# Altium integrated library Analog Devices Clock Generation and Distribution.IntLib: 120 symbols (part 17 of 18)
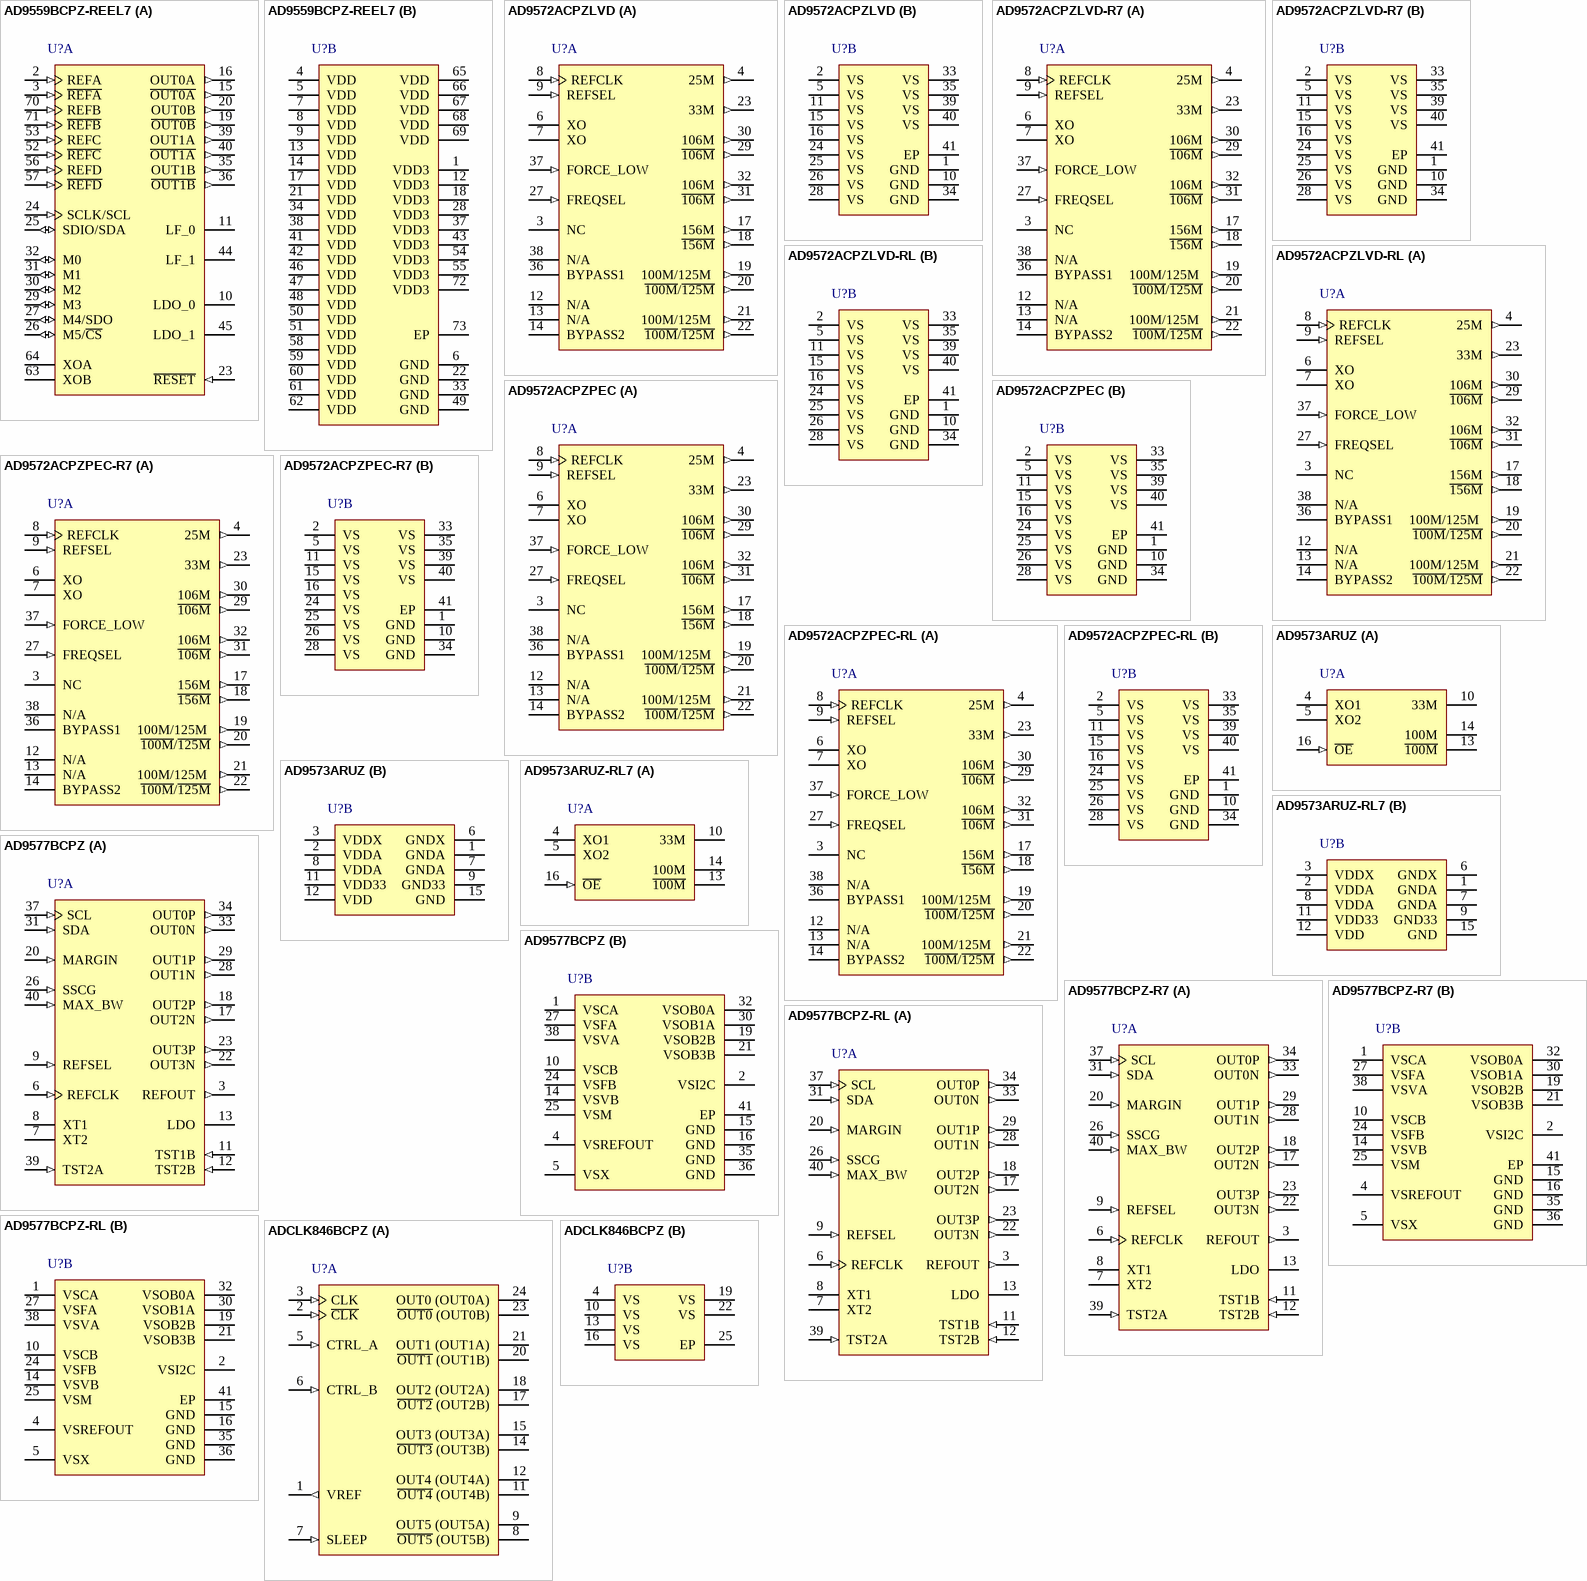
[diagram p28: symbols AD9559BCPZ-REEL7 to ADCLK846BCPZ]

## AD9577BCPZ
designator U?
Clock Generator with Dual PLLs, Spread Spectrum, and Margining, 3.3 V Supply, Industrial, 40-pin QFN (CP-40-7), Tray; Manufacturer: Analog Devices; PartNumber: AD9577BCPZ; # of Inputs: 1; # of Outputs: 8; Supply Voltage (V): 3.3; I/O Interface: Serial; Max f-out: 637.5 MHz; On-Chip VCO or DCO: Yes; Output Logic: LVCMOS, LVDS, LVPECL; DatasheetVersion: Rev. 0; PackageVersion: 012909-B, 02/2009; PackageReference: CP-40-7; PackageDescription: 40-Pin Lead Frame Chip Scale Package, Body 6 x 6 mm, Pitch 0.5 mm; Supplier 1: Digi-Key; Supplier Part Number 1: AD9577BCPZ-ND; Supplier 2: Mouser; Supplier Part Number 2: 584-AD9577BCPZ; Packing: Tray; Mounting Technology: Surface Mount; Code_JEDEC: MO-220-WJJD; ComponentLink1Description: Manufacturer URL; ComponentLink1URL: http://www.analog.com/en/index.html; ComponentLink2Description: Datasheet; ComponentLink2URL: http://www.analog.com/static/imported-files/data_sheets/AD9577.pdf; ComponentLink3Description: Package Specification; ComponentLink3URL: http:/www.analog.com/static/imported-files/packages/PKG_PDF/LFCSP(CP)/CP-40/CP_40_7.pdf; ComponentLink4Description: Product URL; ComponentLink4URL: http://www.analog.com/en/clock-and-timing/clock-generation-and-distribution/ad9577/products/product.html
footprint ADI-CP-40-7_N (QFN, 40-Leads, Body 6x6mm, Pitch 0.5mm, Thermal Pad 4.6x4.6mm, IPC Medium Density)
footprint ADI-CP-40-7_L (QFN, 40-Leads, Body 6x6mm, Pitch 0.5mm, Thermal Pad 4.6x4.6mm, IPC High Density)
footprint ADI-CP-40-7_M (QFN, 40-Leads, Body 6x6mm, Pitch 0.5mm, Thermal Pad 4.6x4.6mm, IPC Low Density)
part A pins: 3 REFOUT (out) "CMOS Reference Output.", 6 REFCLK (in) "Reference Clock Input. Tie low when not in use.", 7 XT2 "External 19.44 MHz to 27 MHz Crystal. Leave unconnected when not in use.", 8 XT1 "External 19.44 MHz to 27 MHz Crystal. Leave unconnected when not in use.", 9 REFSEL (in) "Logic Input. Use this pin to select the reference source. Internal 30 k ohm pull-up resistor.", 11 TST1B (in) "Test Pin. Connect this pin to Pin 13 (LDO).", 12 TST2B (in) "Test Pin. Connect this pin to Pin 13 (LDO).", 13 LDO "This pin is for bypassing the PLL2 LDO to ground with a 220 nF capacitor.", 17 OUT2N (out) "LVPECL/LVDS/CMOS Clock Output.", 18 OUT2P (out) "LVPECL/LVDS/CMOS Clock Output.", 20 MARGIN (in) "Logic 1 sets the margining frequency on the clock output pins. Internal 30 k ohm pull-down resistor.", 22 OUT3N (out) "LVPECL/LVDS/CMOS Clock Output.", 23 OUT3P (out) "LVPECL/LVDS/CMOS Clock Output.", 26 SSCG (in) "Logic 1 enables spread spectrum operation of PLL2. Internal 30 k ohm pull-down resistor.", 28 OUT1N (out) "LVPECL/LVDS/CMOS Clock Output.", 29 OUT1P (out) "LVPECL/LVDS/CMOS Clock Output.", 31 SDA (in) "Serial Data Line for I2C.", 33 OUT0N (out) "LVPECL/LVDS/CMOS Clock Output.", 34 OUT0P (out) "LVPECL/LVDS/CMOS Clock Output.", 37 SCL (in) "Serial Clock for I2C.", 39 TST2A (in) "Test Pin. Connect this pin to the printed circuit board (PCB) ground plane.", 40 MAX_BW (in) "Logic 1 widens the loop bandwidth of the fractional-N PLL during spread spectrum. Internal 30 k ohm pull-down resistor."
part B pins: 1 VSCA (power) "PLL1 Power Supply.", 2 VSI2C (power) "I2C Digital Power Supply.", 4 VSREFOUT (power) "Reference Output Buffer Power Supply.", 5 VSX (power) "Crystal Oscillator and Input Reference Power Supply.", 10 VSCB (power) "PLL2 Analog Power Supply.", 14 VSVB (power) "PLL2 VCO Power Supply.", 15 GND (power) "Ground.", 16 GND (power) "Ground.", 19 VSOB2B (power) "Output Port OUT2 Power Supply.", 21 VSOB3B (power) "Output Port OUT3 Power Supply.", 24 VSFB (power) "PLL2 Analog Power Supply.", 25 VSM (power) "PLL2 Digital Power Supply.", 27 VSFA (power) "PLL1 Analog Power Supply.", 30 VSOB1A (power) "Output Port OUT1 Power Supply.", 32 VSOB0A (power) "Output Port OUT0 Power Supply.", 35 GND (power) "Ground.", 36 GND (power) "Ground.", 38 VSVA (power) "PLL1 VCO Power Supply.", 41 EP (power) "The exposed paddle on this package is an electrical connection as well as a thermal enhancement. For the device to function properly, the paddle must be attached to ground (GND). It is recommended that a minimum of nine vias (See Datasheet)"

## AD9577BCPZ-R7
designator U?
Clock Generator with Dual PLLs, Spread Spectrum, and Margining, 3.3 V Supply, Industrial, 40-pin QFN (CP-40-7), Reel; Manufacturer: Analog Devices; PartNumber: AD9577BCPZ-R7; # of Inputs: 1; # of Outputs: 8; Supply Voltage (V): 3.3; I/O Interface: Serial; Max f-out: 637.5 MHz; On-Chip VCO or DCO: Yes; Output Logic: LVCMOS, LVDS, LVPECL; DatasheetVersion: Rev. 0; PackageVersion: 012909-B, 02/2009; PackageReference: CP-40-7; PackageDescription: 40-Pin Lead Frame Chip Scale Package, Body 6 x 6 mm, Pitch 0.5 mm; Supplier 1: Digi-Key; Supplier Part Number 1: AD9577BCPZ-R7TR-ND; Supplier 2: Digi-Key; Supplier Part Number 2: AD9577BCPZ-R7CT-ND; Supplier 3: Digi-Key; Supplier Part Number 3: AD9577BCPZ-R7DKR-ND; Supplier 4: Farnell; Supplier Part Number 4: 2065950; Supplier 5: Newark; Supplier Part Number 5: 72T0902; Supplier 6: Newark; Supplier Part Number 6: 67T0318; Supplier 7: Mouser; Supplier Part Number 7: 584-AD9577BCPZ-R7; Packing: Reel; Mounting Technology: Surface Mount; Code_JEDEC: MO-220-WJJD; ComponentLink1Description: Manufacturer URL; ComponentLink1URL: http://www.analog.com/en/index.html; ComponentLink2Description: Datasheet; ComponentLink2URL: http://www.analog.com/static/imported-files/data_sheets/AD9577.pdf; ComponentLink3Description: Package Specification; ComponentLink3URL: http:/www.analog.com/static/imported-files/packages/PKG_PDF/LFCSP(CP)/CP-40/CP_40_7.pdf; ComponentLink4Description: Product URL; ComponentLink4URL: http://www.analog.com/en/clock-and-timing/clock-generation-and-distribution/ad9577/products/product.html
footprint ADI-CP-40-7_N (QFN, 40-Leads, Body 6x6mm, Pitch 0.5mm, Thermal Pad 4.6x4.6mm, IPC Medium Density)
footprint ADI-CP-40-7_L (QFN, 40-Leads, Body 6x6mm, Pitch 0.5mm, Thermal Pad 4.6x4.6mm, IPC High Density)
footprint ADI-CP-40-7_M (QFN, 40-Leads, Body 6x6mm, Pitch 0.5mm, Thermal Pad 4.6x4.6mm, IPC Low Density)
part A pins: 3 REFOUT (out) "CMOS Reference Output.", 6 REFCLK (in) "Reference Clock Input. Tie low when not in use.", 7 XT2 "External 19.44 MHz to 27 MHz Crystal. Leave unconnected when not in use.", 8 XT1 "External 19.44 MHz to 27 MHz Crystal. Leave unconnected when not in use.", 9 REFSEL (in) "Logic Input. Use this pin to select the reference source. Internal 30 k ohm pull-up resistor.", 11 TST1B (in) "Test Pin. Connect this pin to Pin 13 (LDO).", 12 TST2B (in) "Test Pin. Connect this pin to Pin 13 (LDO).", 13 LDO "This pin is for bypassing the PLL2 LDO to ground with a 220 nF capacitor.", 17 OUT2N (out) "LVPECL/LVDS/CMOS Clock Output.", 18 OUT2P (out) "LVPECL/LVDS/CMOS Clock Output.", 20 MARGIN (in) "Logic 1 sets the margining frequency on the clock output pins. Internal 30 k ohm pull-down resistor.", 22 OUT3N (out) "LVPECL/LVDS/CMOS Clock Output.", 23 OUT3P (out) "LVPECL/LVDS/CMOS Clock Output.", 26 SSCG (in) "Logic 1 enables spread spectrum operation of PLL2. Internal 30 k ohm pull-down resistor.", 28 OUT1N (out) "LVPECL/LVDS/CMOS Clock Output.", 29 OUT1P (out) "LVPECL/LVDS/CMOS Clock Output.", 31 SDA (in) "Serial Data Line for I2C.", 33 OUT0N (out) "LVPECL/LVDS/CMOS Clock Output.", 34 OUT0P (out) "LVPECL/LVDS/CMOS Clock Output.", 37 SCL (in) "Serial Clock for I2C.", 39 TST2A (in) "Test Pin. Connect this pin to the printed circuit board (PCB) ground plane.", 40 MAX_BW (in) "Logic 1 widens the loop bandwidth of the fractional-N PLL during spread spectrum. Internal 30 k ohm pull-down resistor."
part B pins: 1 VSCA (power) "PLL1 Power Supply.", 2 VSI2C (power) "I2C Digital Power Supply.", 4 VSREFOUT (power) "Reference Output Buffer Power Supply.", 5 VSX (power) "Crystal Oscillator and Input Reference Power Supply.", 10 VSCB (power) "PLL2 Analog Power Supply.", 14 VSVB (power) "PLL2 VCO Power Supply.", 15 GND (power) "Ground.", 16 GND (power) "Ground.", 19 VSOB2B (power) "Output Port OUT2 Power Supply.", 21 VSOB3B (power) "Output Port OUT3 Power Supply.", 24 VSFB (power) "PLL2 Analog Power Supply.", 25 VSM (power) "PLL2 Digital Power Supply.", 27 VSFA (power) "PLL1 Analog Power Supply.", 30 VSOB1A (power) "Output Port OUT1 Power Supply.", 32 VSOB0A (power) "Output Port OUT0 Power Supply.", 35 GND (power) "Ground.", 36 GND (power) "Ground.", 38 VSVA (power) "PLL1 VCO Power Supply.", 41 EP (power) "The exposed paddle on this package is an electrical connection as well as a thermal enhancement. For the device to function properly, the paddle must be attached to ground (GND). It is recommended that a minimum of nine vias (See Datasheet)"

## AD9577BCPZ-RL
designator U?
Clock Generator with Dual PLLs, Spread Spectrum, and Margining, 3.3 V Supply, Industrial, 40-pin QFN (CP-40-7), Reel; Manufacturer: Analog Devices; PartNumber: AD9577BCPZ-RL; # of Inputs: 1; # of Outputs: 8; Supply Voltage (V): 3.3; I/O Interface: Serial; Max f-out: 637.5 MHz; On-Chip VCO or DCO: Yes; Output Logic: LVCMOS, LVDS, LVPECL; DatasheetVersion: Rev. 0; PackageVersion: 012909-B, 02/2009; PackageReference: CP-40-7; PackageDescription: 40-Pin Lead Frame Chip Scale Package, Body 6 x 6 mm, Pitch 0.5 mm; Supplier 1: Digi-Key; Supplier Part Number 1: AD9577BCPZ-RL-ND; Supplier 2: Mouser; Supplier Part Number 2: 584-AD9577BCPZ-R; Packing: Reel; Mounting Technology: Surface Mount; Code_JEDEC: MO-220-WJJD; ComponentLink1Description: Manufacturer URL; ComponentLink1URL: http://www.analog.com/en/index.html; ComponentLink2Description: Datasheet; ComponentLink2URL: http://www.analog.com/static/imported-files/data_sheets/AD9577.pdf; ComponentLink3Description: Package Specification; ComponentLink3URL: http:/www.analog.com/static/imported-files/packages/PKG_PDF/LFCSP(CP)/CP-40/CP_40_7.pdf; ComponentLink4Description: Product URL; ComponentLink4URL: http://www.analog.com/en/clock-and-timing/clock-generation-and-distribution/ad9577/products/product.html
footprint ADI-CP-40-7_N (QFN, 40-Leads, Body 6x6mm, Pitch 0.5mm, Thermal Pad 4.6x4.6mm, IPC Medium Density)
footprint ADI-CP-40-7_L (QFN, 40-Leads, Body 6x6mm, Pitch 0.5mm, Thermal Pad 4.6x4.6mm, IPC High Density)
footprint ADI-CP-40-7_M (QFN, 40-Leads, Body 6x6mm, Pitch 0.5mm, Thermal Pad 4.6x4.6mm, IPC Low Density)
part A pins: 3 REFOUT (out) "CMOS Reference Output.", 6 REFCLK (in) "Reference Clock Input. Tie low when not in use.", 7 XT2 "External 19.44 MHz to 27 MHz Crystal. Leave unconnected when not in use.", 8 XT1 "External 19.44 MHz to 27 MHz Crystal. Leave unconnected when not in use.", 9 REFSEL (in) "Logic Input. Use this pin to select the reference source. Internal 30 k ohm pull-up resistor.", 11 TST1B (in) "Test Pin. Connect this pin to Pin 13 (LDO).", 12 TST2B (in) "Test Pin. Connect this pin to Pin 13 (LDO).", 13 LDO "This pin is for bypassing the PLL2 LDO to ground with a 220 nF capacitor.", 17 OUT2N (out) "LVPECL/LVDS/CMOS Clock Output.", 18 OUT2P (out) "LVPECL/LVDS/CMOS Clock Output.", 20 MARGIN (in) "Logic 1 sets the margining frequency on the clock output pins. Internal 30 k ohm pull-down resistor.", 22 OUT3N (out) "LVPECL/LVDS/CMOS Clock Output.", 23 OUT3P (out) "LVPECL/LVDS/CMOS Clock Output.", 26 SSCG (in) "Logic 1 enables spread spectrum operation of PLL2. Internal 30 k ohm pull-down resistor.", 28 OUT1N (out) "LVPECL/LVDS/CMOS Clock Output.", 29 OUT1P (out) "LVPECL/LVDS/CMOS Clock Output.", 31 SDA (in) "Serial Data Line for I2C.", 33 OUT0N (out) "LVPECL/LVDS/CMOS Clock Output.", 34 OUT0P (out) "LVPECL/LVDS/CMOS Clock Output.", 37 SCL (in) "Serial Clock for I2C.", 39 TST2A (in) "Test Pin. Connect this pin to the printed circuit board (PCB) ground plane.", 40 MAX_BW (in) "Logic 1 widens the loop bandwidth of the fractional-N PLL during spread spectrum. Internal 30 k ohm pull-down resistor."
part B pins: 1 VSCA (power) "PLL1 Power Supply.", 2 VSI2C (power) "I2C Digital Power Supply.", 4 VSREFOUT (power) "Reference Output Buffer Power Supply.", 5 VSX (power) "Crystal Oscillator and Input Reference Power Supply.", 10 VSCB (power) "PLL2 Analog Power Supply.", 14 VSVB (power) "PLL2 VCO Power Supply.", 15 GND (power) "Ground.", 16 GND (power) "Ground.", 19 VSOB2B (power) "Output Port OUT2 Power Supply.", 21 VSOB3B (power) "Output Port OUT3 Power Supply.", 24 VSFB (power) "PLL2 Analog Power Supply.", 25 VSM (power) "PLL2 Digital Power Supply.", 27 VSFA (power) "PLL1 Analog Power Supply.", 30 VSOB1A (power) "Output Port OUT1 Power Supply.", 32 VSOB0A (power) "Output Port OUT0 Power Supply.", 35 GND (power) "Ground.", 36 GND (power) "Ground.", 38 VSVA (power) "PLL1 VCO Power Supply.", 41 EP (power) "The exposed paddle on this package is an electrical connection as well as a thermal enhancement. For the device to function properly, the paddle must be attached to ground (GND). It is recommended that a minimum of nine vias (See Datasheet)"

## ADCLK846BCPZ
designator U?
6 LVDS / 12 CMOS Outputs Low Power Clock Fanout Buffer, 1.8 V Supply, Industrial, 24-pin QFN (CP-24-2), Tray; Manufacturer: Analog Devices; PartNumber: ADCLK846BCPZ; # of Inputs: 1; # of Outputs: 12; Supply Voltage (V): 1.8; I/O Interface: Pin Select; Max f-out: 1.2 GHz; On-Chip VCO or DCO: No; Output Logic: CMOS, LVDS; DatasheetVersion: Rev. B; PackageVersion: 01/2005; PackageReference: CP-24-2; PackageDescription: 24-Pin Lead Frame Chip Scale Package, Body 4 x 4 mm, Pitch 0.5 mm; Supplier 1: Digi-Key; Supplier Part Number 1: ADCLK846BCPZ-ND; Supplier 2: Farnell; Supplier Part Number 2: 2376794; Supplier 3: Newark; Supplier Part Number 3: 24R8956; Supplier 4: Mouser; Supplier Part Number 4: 584-ADCLK846BCPZ; Packing: Tray; Mounting Technology: Surface Mount; Code_JEDEC: MO-220-VGGD-2; ComponentLink1Description: Manufacturer URL; ComponentLink1URL: http://www.analog.com/en/index.html; ComponentLink2Description: Datasheet; ComponentLink2URL: http://www.analog.com/static/imported-files/data_sheets/ADCLK846.pdf; ComponentLink3Description: Package Specification; ComponentLink3URL: http:/www.analog.com/static/imported-files/packages/588305704543880784658541CP_24_2.pdf; ComponentLink4Description: Product URL; ComponentLink4URL: http://www.analog.com/en/clock-and-timing/clock-generation-and-distribution/adclk846/products/product.html; ComponentLink5Description: Reference Circuit; ComponentLink5URL: http://www.analog.com/en/clock-and-timing/clock-generation-and-distribution/adclk846/products/product.html#product-recommendations
footprint ADI-CP-24-2_N (QFN, 24-Leads, Body 4x4mm, Pitch 0.5mm, Thermal Pad 2.3x2.3mm, IPC Medium Density)
footprint ADI-CP-24-2_L (QFN, 24-Leads, Body 4x4mm, Pitch 0.5mm, Thermal Pad 2.3x2.3mm, IPC High Density)
footprint ADI-CP-24-2_M (QFN, 24-Leads, Body 4x4mm, Pitch 0.5mm, Thermal Pad 2.3x2.3mm, IPC Low Density)
part A pins: 1 VREF (out) "Reference Voltage.", 2 ~{CLK} (in) "Clock Input (Negative).", 3 CLK (in) "Clock Input (Positive).", 5 CTRL_A (in) "CMOS Input Control for Output 1 to Output 0. (0: LVDS, 1: CMOS.)", 6 CTRL_B (in) "CMOS Input Control for Output 5 to Output 2. (0: LVDS, 1: CMOS.)", 7 SLEEP (in) "CMOS Input for Sleep Mode. (0: normal operation, 1: sleep.)", 8 ~{OUT5} (OUT5B) (hiz) "Complementary Side of Differential LVDS Output 5, or CMOS Output 5 on Channel B.", 9 OUT5 (OUT5A) (hiz) "True Side of Differential LVDS Output 5, or CMOS Output 5 on Channel A.", 11 ~{OUT4} (OUT4B) (hiz) "Complementary Side of Differential LVDS Output 4, or CMOS Output 4 on Channel B.", 12 OUT4 (OUT4A) (hiz) "True Side of Differential LVDS Output 4, or CMOS Output 4 on Channel A.", 14 ~{OUT3} (OUT3B) (hiz) "Complementary Side of Differential LVDS Output 3, or CMOS Output 3 on Channel B.", 15 OUT3 (OUT3A) (hiz) "True Side of Differential LVDS Output 3, or CMOS Output 3 on Channel A.", 17 ~{OUT2} (OUT2B) (hiz) "Complementary Side of Differential LVDS Output 2, or CMOS Output 2 on Channel B.", 18 OUT2 (OUT2A) (hiz) "True Side of Differential LVDS Output 2, or CMOS Output 2 on Channel A.", 20 ~{OUT1} (OUT1B) (hiz) "Complementary Side of Differential LVDS Output 1, or CMOS Output 1 on Channel B.", 21 OUT1 (OUT1A) (hiz) "True Side of Differential LVDS Output 1, or CMOS Output 1 on Channel A.", 23 ~{OUT0} (OUT0B) (hiz) "Complementary Side of Differential LVDS Output 0, or CMOS Output 0 on Channel B.", 24 OUT0 (OUT0A) (hiz) "True Side of Differential LVDS Output 0, or CMOS Output 0 on Channel A."
part B pins: 4 VS (power) "Supply Voltage.", 10 VS (power) "Supply Voltage.", 13 VS (power) "Supply Voltage.", 16 VS (power) "Supply Voltage.", 19 VS (power) "Supply Voltage.", 22 VS (power) "Supply Voltage.", 25 EP (power) "Exposed Paddle. The exposed paddle must be connected to ground."

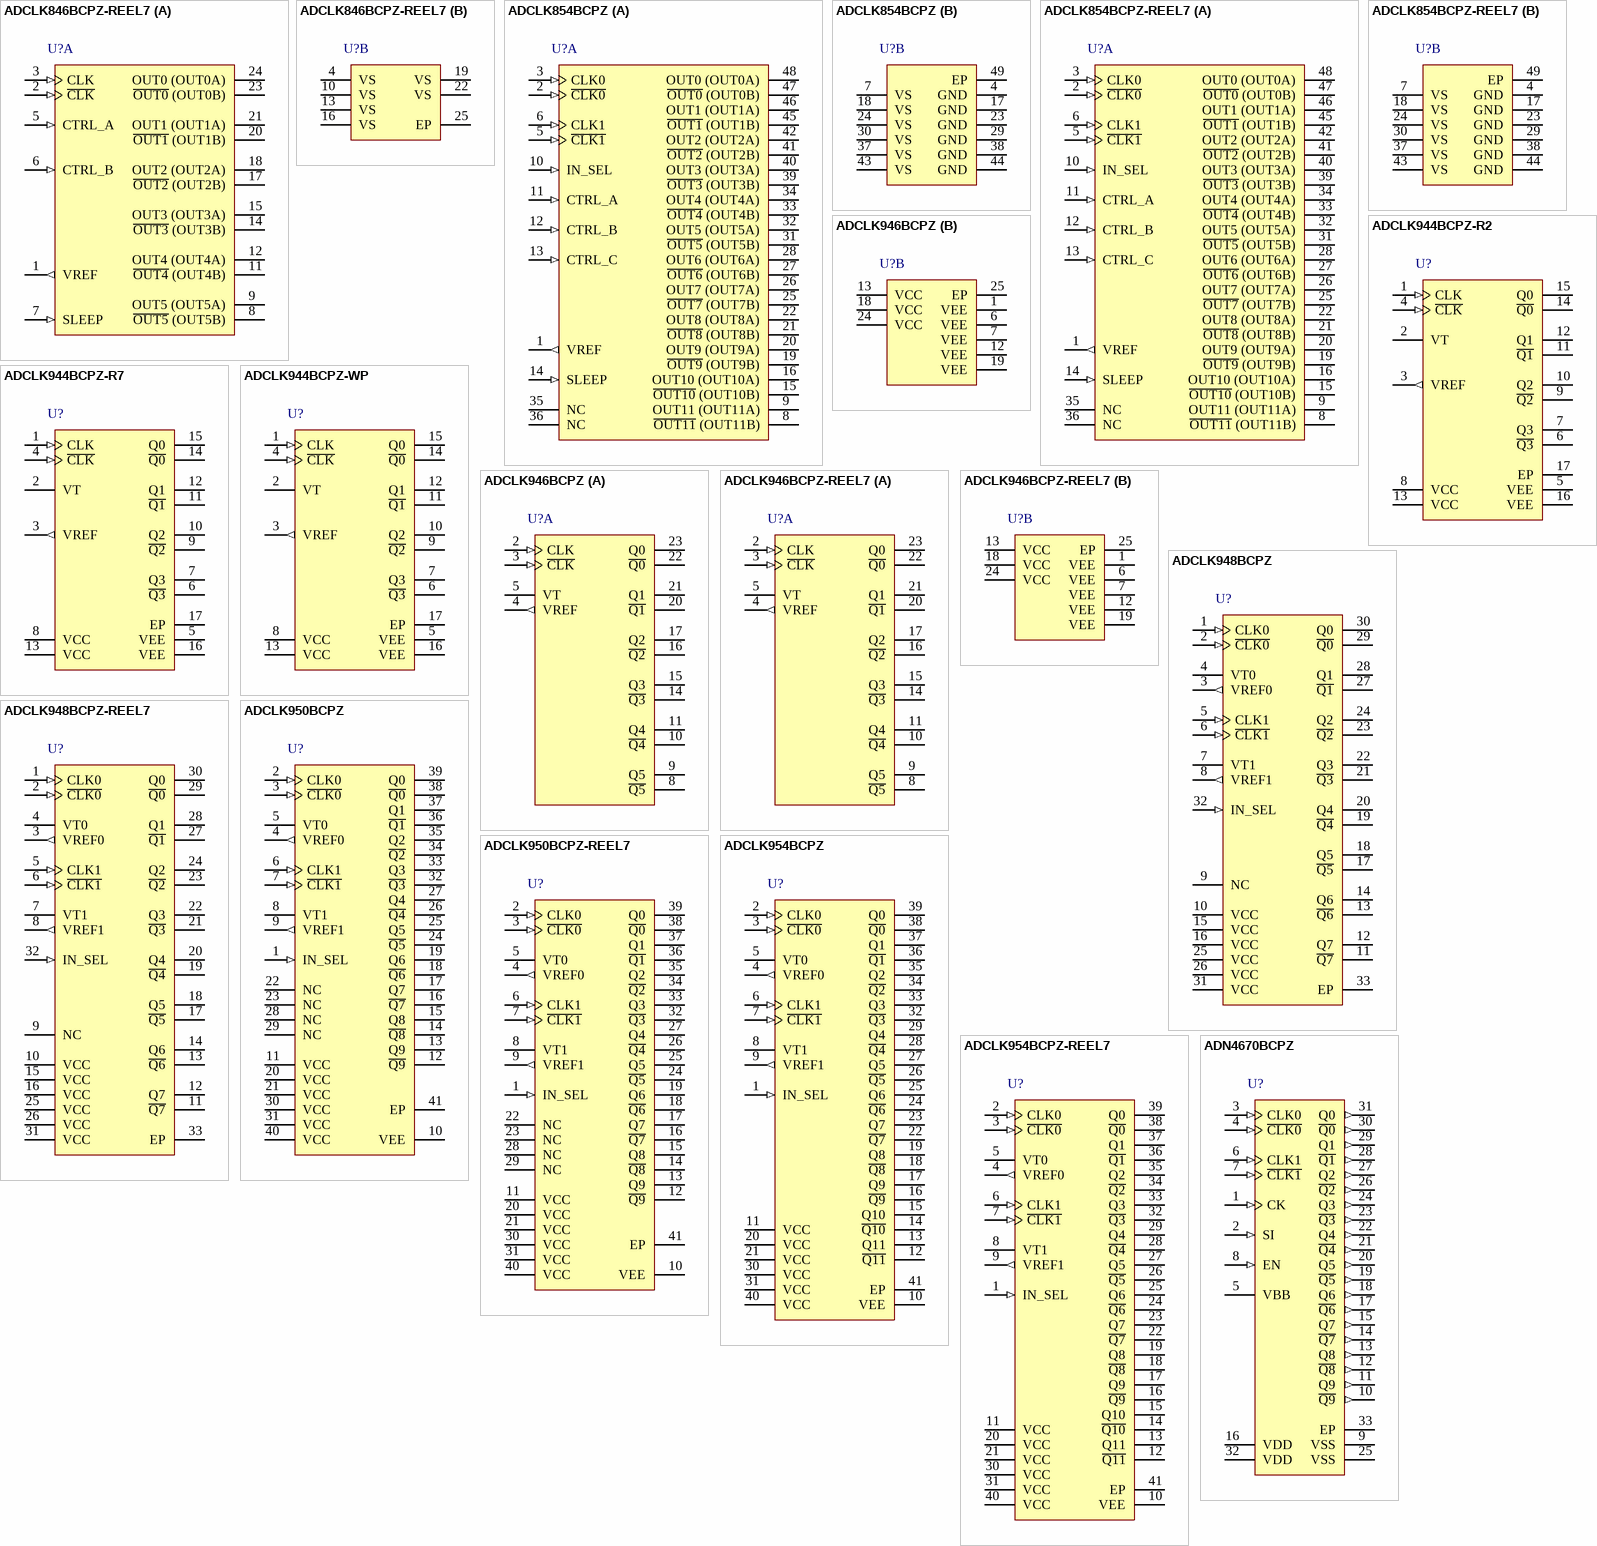
[diagram p11: symbols ADCLK846BCPZ-REEL7 to ADN4670BCPZ]

## ADCLK846BCPZ-REEL7
designator U?
6 LVDS / 12 CMOS Outputs Low Power Clock Fanout Buffer, 1.8 V Supply, Industrial, 24-pin QFN (CP-24-2), Reel; Manufacturer: Analog Devices; PartNumber: ADCLK846BCPZ-REEL7; # of Inputs: 1; # of Outputs: 12; Supply Voltage (V): 1.8; I/O Interface: Pin Select; Max f-out: 1.2 GHz; On-Chip VCO or DCO: No; Output Logic: CMOS, LVDS; DatasheetVersion: Rev. B; PackageVersion: 01/2005; PackageReference: CP-24-2; PackageDescription: 24-Pin Lead Frame Chip Scale Package, Body 4 x 4 mm, Pitch 0.5 mm; Supplier 1: Digi-Key; Supplier Part Number 1: ADCLK846BCPZ-REEL7-ND; Supplier 2: Newark; Supplier Part Number 2: 24R8957; Supplier 3: Mouser; Supplier Part Number 3: 584-ADCLK846BCPZR7; Packing: Reel; Mounting Technology: Surface Mount; Code_JEDEC: MO-220-VGGD-2; ComponentLink1Description: Manufacturer URL; ComponentLink1URL: http://www.analog.com/en/index.html; ComponentLink2Description: Datasheet; ComponentLink2URL: http://www.analog.com/static/imported-files/data_sheets/ADCLK846.pdf; ComponentLink3Description: Package Specification; ComponentLink3URL: http:/www.analog.com/static/imported-files/packages/588305704543880784658541CP_24_2.pdf; ComponentLink4Description: Product URL; ComponentLink4URL: http://www.analog.com/en/clock-and-timing/clock-generation-and-distribution/adclk846/products/product.html; ComponentLink5Description: Reference Circuit; ComponentLink5URL: http://www.analog.com/en/clock-and-timing/clock-generation-and-distribution/adclk846/products/product.html#product-recommendations
footprint ADI-CP-24-2_N (QFN, 24-Leads, Body 4x4mm, Pitch 0.5mm, Thermal Pad 2.3x2.3mm, IPC Medium Density)
footprint ADI-CP-24-2_L (QFN, 24-Leads, Body 4x4mm, Pitch 0.5mm, Thermal Pad 2.3x2.3mm, IPC High Density)
footprint ADI-CP-24-2_M (QFN, 24-Leads, Body 4x4mm, Pitch 0.5mm, Thermal Pad 2.3x2.3mm, IPC Low Density)
part A pins: 1 VREF (out) "Reference Voltage.", 2 ~{CLK} (in) "Clock Input (Negative).", 3 CLK (in) "Clock Input (Positive).", 5 CTRL_A (in) "CMOS Input Control for Output 1 to Output 0. (0: LVDS, 1: CMOS.)", 6 CTRL_B (in) "CMOS Input Control for Output 5 to Output 2. (0: LVDS, 1: CMOS.)", 7 SLEEP (in) "CMOS Input for Sleep Mode. (0: normal operation, 1: sleep.)", 8 ~{OUT5} (OUT5B) (hiz) "Complementary Side of Differential LVDS Output 5, or CMOS Output 5 on Channel B.", 9 OUT5 (OUT5A) (hiz) "True Side of Differential LVDS Output 5, or CMOS Output 5 on Channel A.", 11 ~{OUT4} (OUT4B) (hiz) "Complementary Side of Differential LVDS Output 4, or CMOS Output 4 on Channel B.", 12 OUT4 (OUT4A) (hiz) "True Side of Differential LVDS Output 4, or CMOS Output 4 on Channel A.", 14 ~{OUT3} (OUT3B) (hiz) "Complementary Side of Differential LVDS Output 3, or CMOS Output 3 on Channel B.", 15 OUT3 (OUT3A) (hiz) "True Side of Differential LVDS Output 3, or CMOS Output 3 on Channel A.", 17 ~{OUT2} (OUT2B) (hiz) "Complementary Side of Differential LVDS Output 2, or CMOS Output 2 on Channel B.", 18 OUT2 (OUT2A) (hiz) "True Side of Differential LVDS Output 2, or CMOS Output 2 on Channel A.", 20 ~{OUT1} (OUT1B) (hiz) "Complementary Side of Differential LVDS Output 1, or CMOS Output 1 on Channel B.", 21 OUT1 (OUT1A) (hiz) "True Side of Differential LVDS Output 1, or CMOS Output 1 on Channel A.", 23 ~{OUT0} (OUT0B) (hiz) "Complementary Side of Differential LVDS Output 0, or CMOS Output 0 on Channel B.", 24 OUT0 (OUT0A) (hiz) "True Side of Differential LVDS Output 0, or CMOS Output 0 on Channel A."
part B pins: 4 VS (power) "Supply Voltage.", 10 VS (power) "Supply Voltage.", 13 VS (power) "Supply Voltage.", 16 VS (power) "Supply Voltage.", 19 VS (power) "Supply Voltage.", 22 VS (power) "Supply Voltage.", 25 EP (power) "Exposed Paddle. The exposed paddle must be connected to ground."

## ADCLK854BCPZ
designator U?
12 LVDS / 24 CMOS Outputs, Low Power Clock Fanout Buffer, 1.8 V Supply, Industrial, 48-pin QFN (CP-48-6), Tray; Manufacturer: Analog Devices; PartNumber: ADCLK854BCPZ; # of Inputs: 2; # of Outputs: 24; Supply Voltage (V): 1.8; I/O Interface: Pin Select; Max f-out: 1.2 GHz; On-Chip VCO or DCO: No; Output Logic: CMOS, LVDS; DatasheetVersion: Rev. 0; PackageVersion: 080508-A, 08/2008; PackageReference: CP-48-6; PackageDescription: 48-Pin Lead Frame Chip Scale Package, Body 7 x 7 mm, Pitch 0.5 mm; Supplier 1: Digi-Key; Supplier Part Number 1: ADCLK854BCPZ-ND; Supplier 2: Farnell; Supplier Part Number 2: 2312693; Supplier 3: Newark; Supplier Part Number 3: 08R6612; Supplier 4: Mouser; Supplier Part Number 4: 584-ADCLK854BCPZ; Packing: Tray; Mounting Technology: Surface Mount; Code_JEDEC: MO-220-VKKD-2; ComponentLink1Description: Manufacturer URL; ComponentLink1URL: http://www.analog.com/en/index.html; ComponentLink2Description: Datasheet; ComponentLink2URL: http://www.analog.com/static/imported-files/data_sheets/ADCLK854.pdf; ComponentLink3Description: Package Specification; ComponentLink3URL: http:/www.analog.com/static/imported-files/packages/PKG_PDF/LFCSP(CP)/CP_48_6.pdf; ComponentLink4Description: Product URL; ComponentLink4URL: http://www.analog.com/en/clock-and-timing/clock-generation-and-distribution/adclk854/products/product.html; ComponentLink5Description: Reference Circuit; ComponentLink5URL: http://www.analog.com/en/clock-and-timing/clock-generation-and-distribution/adclk854/products/product.html#product-recommendations
footprint ADI-CP-48-6_N (QFN, 48-Leads, Body 7x7mm, Pitch 0.5mm, Thermal Pad 2.8x2.8mm, IPC Medium Density)
footprint ADI-CP-48-6_L (QFN, 48-Leads, Body 7x7mm, Pitch 0.5mm, Thermal Pad 2.8x2.8mm, IPC High Density)
footprint ADI-CP-48-6_M (QFN, 48-Leads, Body 7x7mm, Pitch 0.5mm, Thermal Pad 2.8x2.8mm, IPC Low Density)
part A pins: 1 VREF (out) "Reference Voltage.", 2 ~{CLK0} (in) "Input (Negative) 0.", 3 CLK0 (in) "Input (Positive) 0.", 5 ~{CLK1} (in) "Input (Negative) 1.", 6 CLK1 (in) "Input (Positive) 1.", 8 ~{OUT11} (OUT11B) (hiz) "Complementary Side of Differential LVDS Output 11, or CMOS Output 11 on Channel B", 9 OUT11 (OUT11A) (hiz) "True Side of Differential LVDS Output 11, or CMOS Output 11 on Channel A.", 10 IN_SEL (in) "Input Select. (0 = CLK0, C\L\K\0\; 1 = CLK1, C\L\K\1\). CMOS logic input with 200 k ohm pull-down resistor", 11 CTRL_A (in) "Control for Output 3 to Output 0 (0 = LVDS, 1 = CMOS). CMOS logic input with 200 k ohm pull-down resistor.", 12 CTRL_B (in) "Control for Output 7 to Output 4 (0 = LVDS, 1 = CMOS). CMOS logic input with 200 k ohm pull-down resistor", 13 CTRL_C (in) "Control for Output 11 to Output 8 (0 = LVDS, 1 = CMOS). CMOS logic input with 200 k ohm pull-down resistor", 14 SLEEP (in) "Sleep Mode Control (0 = normal operation, 1 = sleep). CMOS logic input with 200 k ohm pull down resistor.", 15 ~{OUT10} (OUT10B) (hiz) "Complementary Side of Differential LVDS Output 10, or CMOS Output 10 on Channel B.", 16 OUT10 (OUT10A) (hiz) "True Side of Differential LVDS Output 10, or CMOS Output 10 on Channel A.", 19 ~{OUT9} (OUT9B) (hiz) "Complementary Side of Differential LVDS Output 9, or CMOS Output 9 on Channel B.", 20 OUT9 (OUT9A) (hiz) "True Side of Differential LVDS Output 9, or CMOS Output 9 on Channel A.", 21 ~{OUT8} (OUT8B) (hiz) "Complementary Side of Differential LVDS Output 8, or CMOS Output 8 on Channel B.", 22 OUT8 (OUT8A) (hiz) "True Side of Differential LVDS Output 8, or CMOS Output 8 on Channel A.", 25 ~{OUT7} (OUT7B) (hiz) "Complementary Side of Differential LVDS Output 7, or CMOS Output 7 on Channel B.", 26 OUT7 (OUT7A) (hiz) "True Side of Differential LVDS Output 7, or CMOS Output 7 on Channel A.", 27 ~{OUT6} (OUT6B) (hiz) "Complementary Side of Differential LVDS Output 6, or CMOS Output 6 on Channel B.", 28 OUT6 (OUT6A) (hiz) "True Side of Differential LVDS Output 6, or CMOS Output 6 on Channel A.", 31 ~{OUT5} (OUT5B) (hiz) "Complementary Side of Differential LVDS Output 5, or CMOS Output 5 on Channel B.", 32 OUT5 (OUT5A) (hiz) "True Side of Differential LVDS Output 5, or CMOS Output 5 on Channel A.", 33 ~{OUT4} (OUT4B) (hiz) "Complementary Side of Differential LVDS Output 4, or CMOS Output 4 on Channel B.", 34 OUT4 (OUT4A) (hiz) "True Side of Differential LVDS Output 4, or CMOS Output 4 on Channel A.", 35 NC "No Connect.", 36 NC "No Connect.", 39 ~{OUT3} (OUT3B) (hiz) "Complementary Side of Differential LVDS Output 3, or CMOS Output 3 on Channel B.", 40 OUT3 (OUT3A) (hiz) "True Side of Differential LVDS Output 3, or CMOS Output 3 on Channel A.", 41 ~{OUT2} (OUT2B) (hiz) "Complementary Side of Differential LVDS Output 2, or CMOS Output 2 on Channel B.", 42 OUT2 (OUT2A) (hiz) "True Side of Differential LVDS Output 2, or CMOS Output 2 on Channel A.", 45 ~{OUT1} (OUT1B) (hiz) "Complementary Side of Differential LVDS Output 1, or CMOS Output 1 on Channel B.", 46 OUT1 (OUT1A) (hiz) "True Side of Differential LVDS Output 1, or CMOS Output 1 on Channel A.", 47 ~{OUT0} (OUT0B) (hiz) "Complementary Side of Differential LVDS Output 0, or CMOS Output 0 on Channel B.", 48 OUT0 (OUT0A) (hiz) "True Side of Differential LVDS Output 0, or CMOS Output 0 on Channel A."
part B pins: 4 GND (power) "Ground Pin.", 7 VS (power) "Supply Voltage.", 17 GND (power) "Ground Pin.", 18 VS (power) "Supply Voltage.", 23 GND (power) "Ground Pin.", 24 VS (power) "Supply Voltage.", 29 GND (power) "Ground Pin.", 30 VS (power) "Supply Voltage.", 37 VS (power) "Supply Voltage.", 38 GND (power) "Ground Pin.", 43 VS (power) "Supply Voltage.", 44 GND (power) "Ground Pin.", 49 EP (power) "Exposed Paddle. The exposed paddle must be connected to GND."

## ADCLK854BCPZ-REEL7
designator U?
12 LVDS / 24 CMOS Outputs, Low Power Clock Fanout Buffer, 1.8 V Supply, Industrial, 48-pin QFN (CP-48-6), Reel; Manufacturer: Analog Devices; PartNumber: ADCLK854BCPZ-REEL7; # of Inputs: 2; # of Outputs: 24; Supply Voltage (V): 1.8; I/O Interface: Pin Select; Max f-out: 1.2 GHz; On-Chip VCO or DCO: No; Output Logic: CMOS, LVDS; DatasheetVersion: Rev. 0; PackageVersion: 080508-A, 08/2008; PackageReference: CP-48-6; PackageDescription: 48-Pin Lead Frame Chip Scale Package, Body 7 x 7 mm, Pitch 0.5 mm; Supplier 1: Digi-Key; Supplier Part Number 1: ADCLK854BCPZ-REEL7TR-ND; Supplier 2: Digi-Key; Supplier Part Number 2: ADCLK854BCPZ-REEL7CT-ND; Supplier 3: Digi-Key; Supplier Part Number 3: ADCLK854BCPZ-REEL7DKR-ND; Supplier 4: Newark; Supplier Part Number 4: 05R6526; Supplier 5: Mouser; Supplier Part Number 5: 584-ADCLK854BCPZR7; Packing: Reel; Mounting Technology: Surface Mount; Code_JEDEC: MO-220-VKKD-2; ComponentLink1Description: Manufacturer URL; ComponentLink1URL: http://www.analog.com/en/index.html; ComponentLink2Description: Datasheet; ComponentLink2URL: http://www.analog.com/static/imported-files/data_sheets/ADCLK854.pdf; ComponentLink3Description: Package Specification; ComponentLink3URL: http:/www.analog.com/static/imported-files/packages/PKG_PDF/LFCSP(CP)/CP_48_6.pdf; ComponentLink4Description: Product URL; ComponentLink4URL: http://www.analog.com/en/clock-and-timing/clock-generation-and-distribution/adclk854/products/product.html; ComponentLink5Description: Reference Circuit; ComponentLink5URL: http://www.analog.com/en/clock-and-timing/clock-generation-and-distribution/adclk854/products/product.html#product-recommendations
footprint ADI-CP-48-6_N (QFN, 48-Leads, Body 7x7mm, Pitch 0.5mm, Thermal Pad 2.8x2.8mm, IPC Medium Density)
footprint ADI-CP-48-6_L (QFN, 48-Leads, Body 7x7mm, Pitch 0.5mm, Thermal Pad 2.8x2.8mm, IPC High Density)
footprint ADI-CP-48-6_M (QFN, 48-Leads, Body 7x7mm, Pitch 0.5mm, Thermal Pad 2.8x2.8mm, IPC Low Density)
part A pins: 1 VREF (out) "Reference Voltage.", 2 ~{CLK0} (in) "Input (Negative) 0.", 3 CLK0 (in) "Input (Positive) 0.", 5 ~{CLK1} (in) "Input (Negative) 1.", 6 CLK1 (in) "Input (Positive) 1.", 8 ~{OUT11} (OUT11B) (hiz) "Complementary Side of Differential LVDS Output 11, or CMOS Output 11 on Channel B", 9 OUT11 (OUT11A) (hiz) "True Side of Differential LVDS Output 11, or CMOS Output 11 on Channel A.", 10 IN_SEL (in) "Input Select. (0 = CLK0, C\L\K\0\; 1 = CLK1, C\L\K\1\). CMOS logic input with 200 k ohm pull-down resistor", 11 CTRL_A (in) "Control for Output 3 to Output 0 (0 = LVDS, 1 = CMOS). CMOS logic input with 200 k ohm pull-down resistor.", 12 CTRL_B (in) "Control for Output 7 to Output 4 (0 = LVDS, 1 = CMOS). CMOS logic input with 200 k ohm pull-down resistor", 13 CTRL_C (in) "Control for Output 11 to Output 8 (0 = LVDS, 1 = CMOS). CMOS logic input with 200 k ohm pull-down resistor", 14 SLEEP (in) "Sleep Mode Control (0 = normal operation, 1 = sleep). CMOS logic input with 200 k ohm pull down resistor.", 15 ~{OUT10} (OUT10B) (hiz) "Complementary Side of Differential LVDS Output 10, or CMOS Output 10 on Channel B.", 16 OUT10 (OUT10A) (hiz) "True Side of Differential LVDS Output 10, or CMOS Output 10 on Channel A.", 19 ~{OUT9} (OUT9B) (hiz) "Complementary Side of Differential LVDS Output 9, or CMOS Output 9 on Channel B.", 20 OUT9 (OUT9A) (hiz) "True Side of Differential LVDS Output 9, or CMOS Output 9 on Channel A.", 21 ~{OUT8} (OUT8B) (hiz) "Complementary Side of Differential LVDS Output 8, or CMOS Output 8 on Channel B.", 22 OUT8 (OUT8A) (hiz) "True Side of Differential LVDS Output 8, or CMOS Output 8 on Channel A.", 25 ~{OUT7} (OUT7B) (hiz) "Complementary Side of Differential LVDS Output 7, or CMOS Output 7 on Channel B.", 26 OUT7 (OUT7A) (hiz) "True Side of Differential LVDS Output 7, or CMOS Output 7 on Channel A.", 27 ~{OUT6} (OUT6B) (hiz) "Complementary Side of Differential LVDS Output 6, or CMOS Output 6 on Channel B.", 28 OUT6 (OUT6A) (hiz) "True Side of Differential LVDS Output 6, or CMOS Output 6 on Channel A.", 31 ~{OUT5} (OUT5B) (hiz) "Complementary Side of Differential LVDS Output 5, or CMOS Output 5 on Channel B.", 32 OUT5 (OUT5A) (hiz) "True Side of Differential LVDS Output 5, or CMOS Output 5 on Channel A.", 33 ~{OUT4} (OUT4B) (hiz) "Complementary Side of Differential LVDS Output 4, or CMOS Output 4 on Channel B.", 34 OUT4 (OUT4A) (hiz) "True Side of Differential LVDS Output 4, or CMOS Output 4 on Channel A.", 35 NC "No Connect.", 36 NC "No Connect.", 39 ~{OUT3} (OUT3B) (hiz) "Complementary Side of Differential LVDS Output 3, or CMOS Output 3 on Channel B.", 40 OUT3 (OUT3A) (hiz) "True Side of Differential LVDS Output 3, or CMOS Output 3 on Channel A.", 41 ~{OUT2} (OUT2B) (hiz) "Complementary Side of Differential LVDS Output 2, or CMOS Output 2 on Channel B.", 42 OUT2 (OUT2A) (hiz) "True Side of Differential LVDS Output 2, or CMOS Output 2 on Channel A.", 45 ~{OUT1} (OUT1B) (hiz) "Complementary Side of Differential LVDS Output 1, or CMOS Output 1 on Channel B.", 46 OUT1 (OUT1A) (hiz) "True Side of Differential LVDS Output 1, or CMOS Output 1 on Channel A.", 47 ~{OUT0} (OUT0B) (hiz) "Complementary Side of Differential LVDS Output 0, or CMOS Output 0 on Channel B.", 48 OUT0 (OUT0A) (hiz) "True Side of Differential LVDS Output 0, or CMOS Output 0 on Channel A."
part B pins: 4 GND (power) "Ground Pin.", 7 VS (power) "Supply Voltage.", 17 GND (power) "Ground Pin.", 18 VS (power) "Supply Voltage.", 23 GND (power) "Ground Pin.", 24 VS (power) "Supply Voltage.", 29 GND (power) "Ground Pin.", 30 VS (power) "Supply Voltage.", 37 VS (power) "Supply Voltage.", 38 GND (power) "Ground Pin.", 43 VS (power) "Supply Voltage.", 44 GND (power) "Ground Pin.", 49 EP (power) "Exposed Paddle. The exposed paddle must be connected to GND."

## ADCLK944BCPZ-R2
designator U?
4 LVPECL Outputs, SiGe Clock Fanout Buffer, 2.5 V / 3.3 V Supply, Industrial, 16-pin QFN (CP-16-18), Reel; Manufacturer: Analog Devices; PartNumber: ADCLK944BCPZ-R2; # of Inputs: 1; # of Outputs: 4; Supply Voltage (V): 3.3; I/O Interface: Pin Select; Max f-out: 7 GHz; DatasheetVersion: Rev. 0; PackageVersion: 043008-A, 04/2008; PackageReference: CP-16-18; PackageDescription: 16-Pin Lead Frame Chip Scale Package, Body 3 x 3 mm, Pitch 0.5 mm; Supplier 1: Digi-Key; Supplier Part Number 1: ADCLK944BCPZ-R2TR-ND; Supplier 2: Digi-Key; Supplier Part Number 2: ADCLK944BCPZ-R2CT-ND; Supplier 3: Digi-Key; Supplier Part Number 3: ADCLK944BCPZ-R2DKR-ND; Supplier 4: Newark; Supplier Part Number 4: 74R5838; Supplier 5: Mouser; Supplier Part Number 5: 584-ADCLK944BCPZ-R2; Output Logic: LVPECL; Packing: Reel; Mounting Technology: Surface Mount; ComponentLink1Description: Manufacturer URL; ComponentLink1URL: http://www.analog.com/en/index.html; ComponentLink2Description: Datasheet; ComponentLink2URL: http://www.analog.com/static/imported-files/data_sheets/ADCLK944.pdf; ComponentLink3Description: Package Specification; ComponentLink3URL: http:/www.analog.com/static/imported-files/packages/PKG_PDF/LFCSP(CP)/CP-16/CP_16_18.pdf; ComponentLink4Description: Product URL; ComponentLink4URL: http://www.analog.com/en/clock-and-timing/clock-generation-and-distribution/adclk944/products/product.html
footprint ADI-CP-16-18_N (QFN, 16-Leads, Body 3x3mm, Pitch 0.5mm, Thermal Pad 1.5x1.5mm, IPC Medium Density)
footprint ADI-CP-16-18_L (QFN, 16-Leads, Body 3x3mm, Pitch 0.5mm, Thermal Pad 1.5x1.5mm, IPC High Density)
footprint ADI-CP-16-18_M (QFN, 16-Leads, Body 3x3mm, Pitch 0.5mm, Thermal Pad 1.5x1.5mm, IPC Low Density)
pins: 1 CLK (in) "Differential Input (Positive).", 2 VT "Center Tap. This pin provides the center tap of a 100 ohm input resistor for the CLK and C\L\K\ inputs.", 3 VREF (out) "Reference Voltage. This pin provides the reference voltage for biasing ac-coupled CLK and C\L\K\ inputs.", 4 ~{CLK} (in) "Differential Input (Negative).", 5 VEE (power) "Negative Supply Pin.", 6 ~{Q3} (oe) "Differential LVPECL Outputs.", 7 Q3 (oe) "Differential LVPECL Outputs.", 8 VCC (power) "Positive Supply Pin.", 9 ~{Q2} (oe) "Differential LVPECL Outputs.", 10 Q2 (oe) "Differential LVPECL Outputs.", 11 ~{Q1} (oe) "Differential LVPECL Outputs.", 12 Q1 (oe) "Differential LVPECL Outputs.", 13 VCC (power) "Positive Supply Pin.", 14 ~{Q0} (oe) "Differential LVPECL Outputs.", 15 Q0 (oe) "Differential LVPECL Outputs.", 16 VEE (power) "Negative Supply Pin.", 17 EP (power) "The exposed pad must be connected to VEE."

## ADCLK944BCPZ-R7
designator U?
4 LVPECL Outputs, SiGe Clock Fanout Buffer, 2.5 V / 3.3 V Supply, Industrial, 16-pin QFN (CP-16-18), Reel; Manufacturer: Analog Devices; PartNumber: ADCLK944BCPZ-R7; # of Inputs: 1; # of Outputs: 4; Supply Voltage (V): 3.3; I/O Interface: Pin Select; Max f-out: 7 GHz; DatasheetVersion: Rev. 0; PackageVersion: 043008-A, 04/2008; PackageReference: CP-16-18; PackageDescription: 16-Pin Lead Frame Chip Scale Package, Body 3 x 3 mm, Pitch 0.5 mm; Supplier 1: Digi-Key; Supplier Part Number 1: ADCLK944BCPZ-R7-ND; Supplier 2: Mouser; Supplier Part Number 2: 584-ADCLK944BCPZ-R7; Output Logic: LVPECL; Packing: Reel; Mounting Technology: Surface Mount; ComponentLink1Description: Manufacturer URL; ComponentLink1URL: http://www.analog.com/en/index.html; ComponentLink2Description: Datasheet; ComponentLink2URL: http://www.analog.com/static/imported-files/data_sheets/ADCLK944.pdf; ComponentLink3Description: Package Specification; ComponentLink3URL: http:/www.analog.com/static/imported-files/packages/PKG_PDF/LFCSP(CP)/CP-16/CP_16_18.pdf; ComponentLink4Description: Product URL; ComponentLink4URL: http://www.analog.com/en/clock-and-timing/clock-generation-and-distribution/adclk944/products/product.html
footprint ADI-CP-16-18_N (QFN, 16-Leads, Body 3x3mm, Pitch 0.5mm, Thermal Pad 1.5x1.5mm, IPC Medium Density)
footprint ADI-CP-16-18_L (QFN, 16-Leads, Body 3x3mm, Pitch 0.5mm, Thermal Pad 1.5x1.5mm, IPC High Density)
footprint ADI-CP-16-18_M (QFN, 16-Leads, Body 3x3mm, Pitch 0.5mm, Thermal Pad 1.5x1.5mm, IPC Low Density)
pins: 1 CLK (in) "Differential Input (Positive).", 2 VT "Center Tap. This pin provides the center tap of a 100 ohm input resistor for the CLK and C\L\K\ inputs.", 3 VREF (out) "Reference Voltage. This pin provides the reference voltage for biasing ac-coupled CLK and C\L\K\ inputs.", 4 ~{CLK} (in) "Differential Input (Negative).", 5 VEE (power) "Negative Supply Pin.", 6 ~{Q3} (oe) "Differential LVPECL Outputs.", 7 Q3 (oe) "Differential LVPECL Outputs.", 8 VCC (power) "Positive Supply Pin.", 9 ~{Q2} (oe) "Differential LVPECL Outputs.", 10 Q2 (oe) "Differential LVPECL Outputs.", 11 ~{Q1} (oe) "Differential LVPECL Outputs.", 12 Q1 (oe) "Differential LVPECL Outputs.", 13 VCC (power) "Positive Supply Pin.", 14 ~{Q0} (oe) "Differential LVPECL Outputs.", 15 Q0 (oe) "Differential LVPECL Outputs.", 16 VEE (power) "Negative Supply Pin.", 17 EP (power) "The exposed pad must be connected to VEE."

## ADCLK944BCPZ-WP
designator U?
4 LVPECL Outputs, SiGe Clock Fanout Buffer, 2.5 V / 3.3 V Supply, Industrial, 16-pin QFN (CP-16-18), Tray; Manufacturer: Analog Devices; PartNumber: ADCLK944BCPZ-WP; # of Inputs: 1; # of Outputs: 4; Supply Voltage (V): 3.3; I/O Interface: Pin Select; Max f-out: 7 GHz; DatasheetVersion: Rev. 0; PackageVersion: 043008-A, 04/2008; PackageReference: CP-16-18; PackageDescription: 16-Pin Lead Frame Chip Scale Package, Body 3 x 3 mm, Pitch 0.5 mm; Supplier 1: Digi-Key; Supplier Part Number 1: ADCLK944BCPZ-WP-ND; Supplier 2: Newark; Supplier Part Number 2: 74R5839; Supplier 3: Mouser; Supplier Part Number 3: 584-ADCLK944BCPZ-WP; Output Logic: LVPECL; Packing: Tray; Mounting Technology: Surface Mount; ComponentLink1Description: Manufacturer URL; ComponentLink1URL: http://www.analog.com/en/index.html; ComponentLink2Description: Datasheet; ComponentLink2URL: http://www.analog.com/static/imported-files/data_sheets/ADCLK944.pdf; ComponentLink3Description: Package Specification; ComponentLink3URL: http:/www.analog.com/static/imported-files/packages/PKG_PDF/LFCSP(CP)/CP-16/CP_16_18.pdf; ComponentLink4Description: Product URL; ComponentLink4URL: http://www.analog.com/en/clock-and-timing/clock-generation-and-distribution/adclk944/products/product.html
footprint ADI-CP-16-18_N (QFN, 16-Leads, Body 3x3mm, Pitch 0.5mm, Thermal Pad 1.5x1.5mm, IPC Medium Density)
footprint ADI-CP-16-18_L (QFN, 16-Leads, Body 3x3mm, Pitch 0.5mm, Thermal Pad 1.5x1.5mm, IPC High Density)
footprint ADI-CP-16-18_M (QFN, 16-Leads, Body 3x3mm, Pitch 0.5mm, Thermal Pad 1.5x1.5mm, IPC Low Density)
pins: 1 CLK (in) "Differential Input (Positive).", 2 VT "Center Tap. This pin provides the center tap of a 100 ohm input resistor for the CLK and C\L\K\ inputs.", 3 VREF (out) "Reference Voltage. This pin provides the reference voltage for biasing ac-coupled CLK and C\L\K\ inputs.", 4 ~{CLK} (in) "Differential Input (Negative).", 5 VEE (power) "Negative Supply Pin.", 6 ~{Q3} (oe) "Differential LVPECL Outputs.", 7 Q3 (oe) "Differential LVPECL Outputs.", 8 VCC (power) "Positive Supply Pin.", 9 ~{Q2} (oe) "Differential LVPECL Outputs.", 10 Q2 (oe) "Differential LVPECL Outputs.", 11 ~{Q1} (oe) "Differential LVPECL Outputs.", 12 Q1 (oe) "Differential LVPECL Outputs.", 13 VCC (power) "Positive Supply Pin.", 14 ~{Q0} (oe) "Differential LVPECL Outputs.", 15 Q0 (oe) "Differential LVPECL Outputs.", 16 VEE (power) "Negative Supply Pin.", 17 EP (power) "The exposed pad must be connected to VEE."

## ADCLK946BCPZ
designator U?
6 LVPECL Outputs, SiGe Clock Fanout Buffer, 3.3 V Supply, Industrial, 24-pin QFN (CP-24-2), Tray; Manufacturer: Analog Devices; PartNumber: ADCLK946BCPZ; # of Inputs: 1; # of Outputs: 6; Supply Voltage (V): 3.3; I/O Interface: Pin Select; Max f-out: 4.8 GHz; On-Chip VCO or DCO: No; DatasheetVersion: Rev. A; PackageVersion: 01/2005; PackageReference: CP-24-2; PackageDescription: 24-Pin Lead Frame Chip Scale Package, Body 4 x 4 mm, Pitch 0.5 mm; Supplier 1: Digi-Key; Supplier Part Number 1: ADCLK946BCPZ-ND; Supplier 2: Farnell; Supplier Part Number 2: 2312707; Supplier 3: Newark; Supplier Part Number 3: 11R0917; Supplier 4: Mouser; Supplier Part Number 4: 584-ADCLK946BCPZ; Output Logic: LVPECL; Packing: Tray; Mounting Technology: Surface Mount; Code_JEDEC: MO-220-VGGD-2; ComponentLink1Description: Manufacturer URL; ComponentLink1URL: http://www.analog.com/en/index.html; ComponentLink2Description: Datasheet; ComponentLink2URL: http://www.analog.com/static/imported-files/data_sheets/ADCLK946.pdf; ComponentLink3Description: Package Specification; ComponentLink3URL: http:/www.analog.com/static/imported-files/packages/588305704543880784658541CP_24_2.pdf; ComponentLink4Description: Product URL; ComponentLink4URL: http://www.analog.com/en/clock-and-timing/clock-generation-and-distribution/adclk946/products/product.html
footprint ADI-CP-24-2_N (QFN, 24-Leads, Body 4x4mm, Pitch 0.5mm, Thermal Pad 2.3x2.3mm, IPC Medium Density)
footprint ADI-CP-24-2_L (QFN, 24-Leads, Body 4x4mm, Pitch 0.5mm, Thermal Pad 2.3x2.3mm, IPC High Density)
footprint ADI-CP-24-2_M (QFN, 24-Leads, Body 4x4mm, Pitch 0.5mm, Thermal Pad 2.3x2.3mm, IPC Low Density)
part A pins: 2 CLK (in) "Differential Input (Positive).", 3 ~{CLK} (in) "Differential Input (Negative).", 4 VREF (out) "Reference Voltage. This pin provides the reference voltage for biasing ac-coupled CLK and C\L\K\ inputs.", 5 VT "Center Tap. This pin provides the center tap of a 100  ohm input resistor for CLK and C\L\K\ inputs.", 8 ~{Q5} (oe) "Differential LVPECL Outputs.", 9 Q5 (oe) "Differential LVPECL Outputs.", 10 ~{Q4} (oe) "Differential LVPECL Outputs.", 11 Q4 (oe) "Differential LVPECL Outputs.", 14 ~{Q3} (oe) "Differential LVPECL Outputs.", 15 Q3 (oe) "Differential LVPECL Outputs.", 16 ~{Q2} (oe) "Differential LVPECL Outputs.", 17 Q2 (oe) "Differential LVPECL Outputs.", 20 ~{Q1} (oe) "Differential LVPECL Outputs.", 21 Q1 (oe) "Differential LVPECL Outputs.", 22 ~{Q0} (oe) "Differential LVPECL Outputs.", 23 Q0 (oe) "Differential LVPECL Outputs."
part B pins: 1 VEE (power) "Negative Supply Pin.", 6 VEE (power) "Negative Supply Pin.", 7 VEE (power) "Negative Supply Pin.", 12 VEE (power) "Negative Supply Pin.", 13 VCC (power) "Positive Supply Pin.", 18 VCC (power) "Positive Supply Pin.", 19 VEE (power) "Negative Supply Pin.", 24 VCC (power) "Positive Supply Pin.", 25 EP (power) "EPAD must be soldered to VEE."

## ADCLK946BCPZ-REEL7
designator U?
6 LVPECL Outputs, SiGe Clock Fanout Buffer, 3.3 V Supply, Industrial, 24-pin QFN (CP-24-2), Reel; Manufacturer: Analog Devices; PartNumber: ADCLK946BCPZ-REEL7; # of Inputs: 1; # of Outputs: 6; Supply Voltage (V): 3.3; I/O Interface: Pin Select; Max f-out: 4.8 GHz; On-Chip VCO or DCO: No; DatasheetVersion: Rev. A; PackageVersion: 01/2005; PackageReference: CP-24-2; PackageDescription: 24-Pin Lead Frame Chip Scale Package, Body 4 x 4 mm, Pitch 0.5 mm; Supplier 1: Digi-Key; Supplier Part Number 1: ADCLK946BCPZ-REEL7-ND; Supplier 2: Newark; Supplier Part Number 2: 11R0918; Supplier 3: Mouser; Supplier Part Number 3: 584-ADCLK946BCPZR7; Output Logic: LVPECL; Packing: Reel; Mounting Technology: Surface Mount; Code_JEDEC: MO-220-VGGD-2; ComponentLink1Description: Manufacturer URL; ComponentLink1URL: http://www.analog.com/en/index.html; ComponentLink2Description: Datasheet; ComponentLink2URL: http://www.analog.com/static/imported-files/data_sheets/ADCLK946.pdf; ComponentLink3Description: Package Specification; ComponentLink3URL: http:/www.analog.com/static/imported-files/packages/588305704543880784658541CP_24_2.pdf; ComponentLink4Description: Product URL; ComponentLink4URL: http://www.analog.com/en/clock-and-timing/clock-generation-and-distribution/adclk946/products/product.html
footprint ADI-CP-24-2_N (QFN, 24-Leads, Body 4x4mm, Pitch 0.5mm, Thermal Pad 2.3x2.3mm, IPC Medium Density)
footprint ADI-CP-24-2_L (QFN, 24-Leads, Body 4x4mm, Pitch 0.5mm, Thermal Pad 2.3x2.3mm, IPC High Density)
footprint ADI-CP-24-2_M (QFN, 24-Leads, Body 4x4mm, Pitch 0.5mm, Thermal Pad 2.3x2.3mm, IPC Low Density)
part A pins: 2 CLK (in) "Differential Input (Positive).", 3 ~{CLK} (in) "Differential Input (Negative).", 4 VREF (out) "Reference Voltage. This pin provides the reference voltage for biasing ac-coupled CLK and C\L\K\ inputs.", 5 VT "Center Tap. This pin provides the center tap of a 100  ohm input resistor for CLK and C\L\K\ inputs.", 8 ~{Q5} (oe) "Differential LVPECL Outputs.", 9 Q5 (oe) "Differential LVPECL Outputs.", 10 ~{Q4} (oe) "Differential LVPECL Outputs.", 11 Q4 (oe) "Differential LVPECL Outputs.", 14 ~{Q3} (oe) "Differential LVPECL Outputs.", 15 Q3 (oe) "Differential LVPECL Outputs.", 16 ~{Q2} (oe) "Differential LVPECL Outputs.", 17 Q2 (oe) "Differential LVPECL Outputs.", 20 ~{Q1} (oe) "Differential LVPECL Outputs.", 21 Q1 (oe) "Differential LVPECL Outputs.", 22 ~{Q0} (oe) "Differential LVPECL Outputs.", 23 Q0 (oe) "Differential LVPECL Outputs."
part B pins: 1 VEE (power) "Negative Supply Pin.", 6 VEE (power) "Negative Supply Pin.", 7 VEE (power) "Negative Supply Pin.", 12 VEE (power) "Negative Supply Pin.", 13 VCC (power) "Positive Supply Pin.", 18 VCC (power) "Positive Supply Pin.", 19 VEE (power) "Negative Supply Pin.", 24 VCC (power) "Positive Supply Pin.", 25 EP (power) "EPAD must be soldered to VEE."

## ADCLK948BCPZ
designator U?
2 Selectable Inputs, 8 LVPECL Outputs SiGe Clock Fanout Buffer, 3.3 V Supply, Industrial, 32-pin QFN (CP-32-8), Tray; Manufacturer: Analog Devices; PartNumber: ADCLK948BCPZ; # of Inputs: 2; # of Outputs: 8; Supply Voltage (V): 3.3; I/O Interface: Pin Select; Max f-out: 4.8 GHz; DatasheetVersion: Rev. A; PackageVersion: 080306-A, 08/2006; PackageReference: CP-32-8; PackageDescription: 32-Pin Lead Frame Chip Scale Package, Body 5 x 5 mm, Pitch 0.5 mm; Supplier 1: Digi-Key; Supplier Part Number 1: ADCLK948BCPZ-ND; Supplier 2: Farnell; Supplier Part Number 2: 2376796; Supplier 3: Newark; Supplier Part Number 3: 26R2411; Supplier 4: Mouser; Supplier Part Number 4: 584-ADCLK948BCPZ; Output Logic: LVPECL; Packing: Tray; Mounting Technology: Surface Mount; Code_JEDEC: MO-220-VHHD-2; ComponentLink1Description: Manufacturer URL; ComponentLink1URL: http://www.analog.com/en/index.html; ComponentLink2Description: Datasheet; ComponentLink2URL: http://www.analog.com/static/imported-files/data_sheets/ADCLK948.pdf; ComponentLink3Description: Package Specification; ComponentLink3URL: http://www.analog.com/static/imported-files/packages/3743763361381667927CP_32_8.pdf; ComponentLink4Description: Product URL; ComponentLink4URL: http://www.analog.com/en/clock-and-timing/clock-generation-and-distribution/adclk948/products/product.html; ComponentLink5Description: Reference Circuit; ComponentLink5URL: http://www.analog.com/en/clock-and-timing/clock-generation-and-distribution/adclk948/products/product.html#product-recommendations
footprint ADI-CP-32-8_N (QFN, 32-Leads, Body 5x5mm, Pitch 0.5mm, Thermal Pad 2.7x2.7mm, IPC Medium Density)
footprint ADI-CP-32-8_L (QFN, 32-Leads, Body 5x5mm, Pitch 0.5mm, Thermal Pad 2.7x2.7mm, IPC High Density)
footprint ADI-CP-32-8_M (QFN, 32-Leads, Body 5x5mm, Pitch 0.5mm, Thermal Pad 2.7x2.7mm, IPC Low Density)
pins: 1 CLK0 (in) "Differential Input (Positive) 0.", 2 ~{CLK0} (in) "Differential Input (Negative) 0.", 3 VREF0 (out) "Reference Voltage. Reference voltage for biasing ac-coupled CLK0 and C\L\K\0\ inputs.", 4 VT0 "Center Tap. Center tap of a 100  ohm input resistor for CLK0 and C\L\K\0\ inputs.", 5 CLK1 (in) "Differential Input (Positive) 1.", 6 ~{CLK1} (in) "Differential Input (Negative) 1.", 7 VT1 "Center Tap. Center tap of a 100  ohm input resistor for CLK1 and C\L\K\1\ inputs.", 8 VREF1 (out) "Reference Voltage. Reference voltage for biasing ac-coupled CLK1 and C\L\K\1\ inputs.", 9 NC "No Connection.", 10 VCC (power) "Positive Supply Pin.", 11 ~{Q7} (oe) "Differential LVPECL Outputs.", 12 Q7 (oe) "Differential LVPECL Outputs.", 13 ~{Q6} (oe) "Differential LVPECL Outputs.", 14 Q6 (oe) "Differential LVPECL Outputs.", 15 VCC (power) "Positive Supply Pin.", 16 VCC (power) "Positive Supply Pin.", 17 ~{Q5} (oe) "Differential LVPECL Outputs.", 18 Q5 (oe) "Differential LVPECL Outputs.", 19 ~{Q4} (oe) "Differential LVPECL Outputs.", 20 Q4 (oe) "Differential LVPECL Outputs.", 21 ~{Q3} (oe) "Differential LVPECL Outputs.", 22 Q3 (oe) "Differential LVPECL Outputs.", 23 ~{Q2} (oe) "Differential LVPECL Outputs.", 24 Q2 (oe) "Differential LVPECL Outputs.", 25 VCC (power) "Positive Supply Pin.", 26 VCC (power) "Positive Supply Pin.", 27 ~{Q1} (oe) "Differential LVPECL Outputs.", 28 Q1 (oe) "Differential LVPECL Outputs.", 29 ~{Q0} (oe) "Differential LVPECL Outputs.", 30 Q0 (oe) "Differential LVPECL Outputs.", 31 VCC (power) "Positive Supply Pin.", 32 IN_SEL (in) "Input Select. Logic 0 selects CLK0 and C\L\K\0\ inputs. Logic 1 selects CLK1 and C\L\K\1\ inputs.", 33 EP (power) "The exposed pad (EPAD) must be connected to VEE."